# EAGLE library part SWITCH_ANALOG_6P (library !GPLIB_ACTIVE)
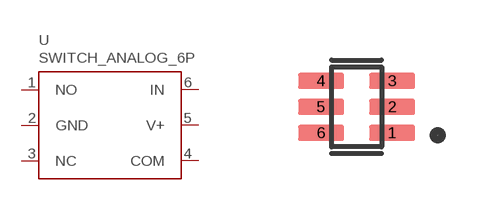
[diagram p3: symbol with the pads of SOT65P210X110-6N; footprint SOT65P210X110-6N]

Designator prefix U

## SWITCH_ANALOG_6P_SGM3157YC6  [SOT65P210X110-6N]
1  NO
2  GND  pwr
3  NC
4  COM  in
5  V+  pwr
6  IN  in

## Footprint SOT65P210X110-6N (pad centres in mm)
SOT-363, SC-88, SC70-6, SC-70-6
smd 1.15 x 0.4: 1 0.89,-0.65; 2 0.89,0; 3 0.89,0.65; 4 -0.89,0.65; 5 -0.89,0; 6 -0.89,-0.65